# Altium schematic symbol library HLK-10M05.SchLib: 1 symbol
Pins are listed as number, name and electrical type; pins without a type are passive.

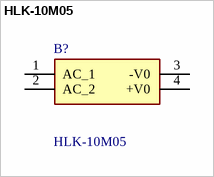
[diagram p0: symbol HLK-10M05]

## HLK-10M05
designator B?
Power Module AC-DC Through Hole RoHS; Manufacturer_Name: Hi-Link; Geometry.Height: 21.8mm; Manufacturer_Part_Number: HLK-10M05; Mouser Part Number: *; Mouser Price/Stock: *; Arrow Part Number: *; Arrow Price/Stock: *; Datasheet Link: https://datasheet.lcsc.com/szlcsc/1909111105_HI-LINK-HLK-10M05_C403745.pdf
footprint HLK10M05
pins: 1 AC_1, 2 AC_2, 3 -V0, 4 +V0